# Altium schematic symbol library EM-19.SchLib: 1 symbol
Pins are listed as number, name and electrical type; pins without a type are passive.

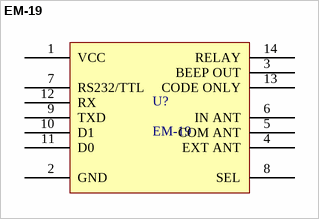
[diagram p0: symbol EM-19]

## EM-19
designator U?
footprint EM19
pins: 1 VCC, 2 GND, 3 BEEP OUT, 4 EXT ANT, 5 COM ANT, 6 IN ANT, 7 RS232/TTL, 8 SEL, 9 TXD, 10 D1, 11 D0, 12 RX, 13 CODE ONLY, 14 RELAY